# Altium schematic symbol library Sch_Milandr.SchLib: 3 symbols
Pins are listed as number, name and electrical type; pins without a type are passive.

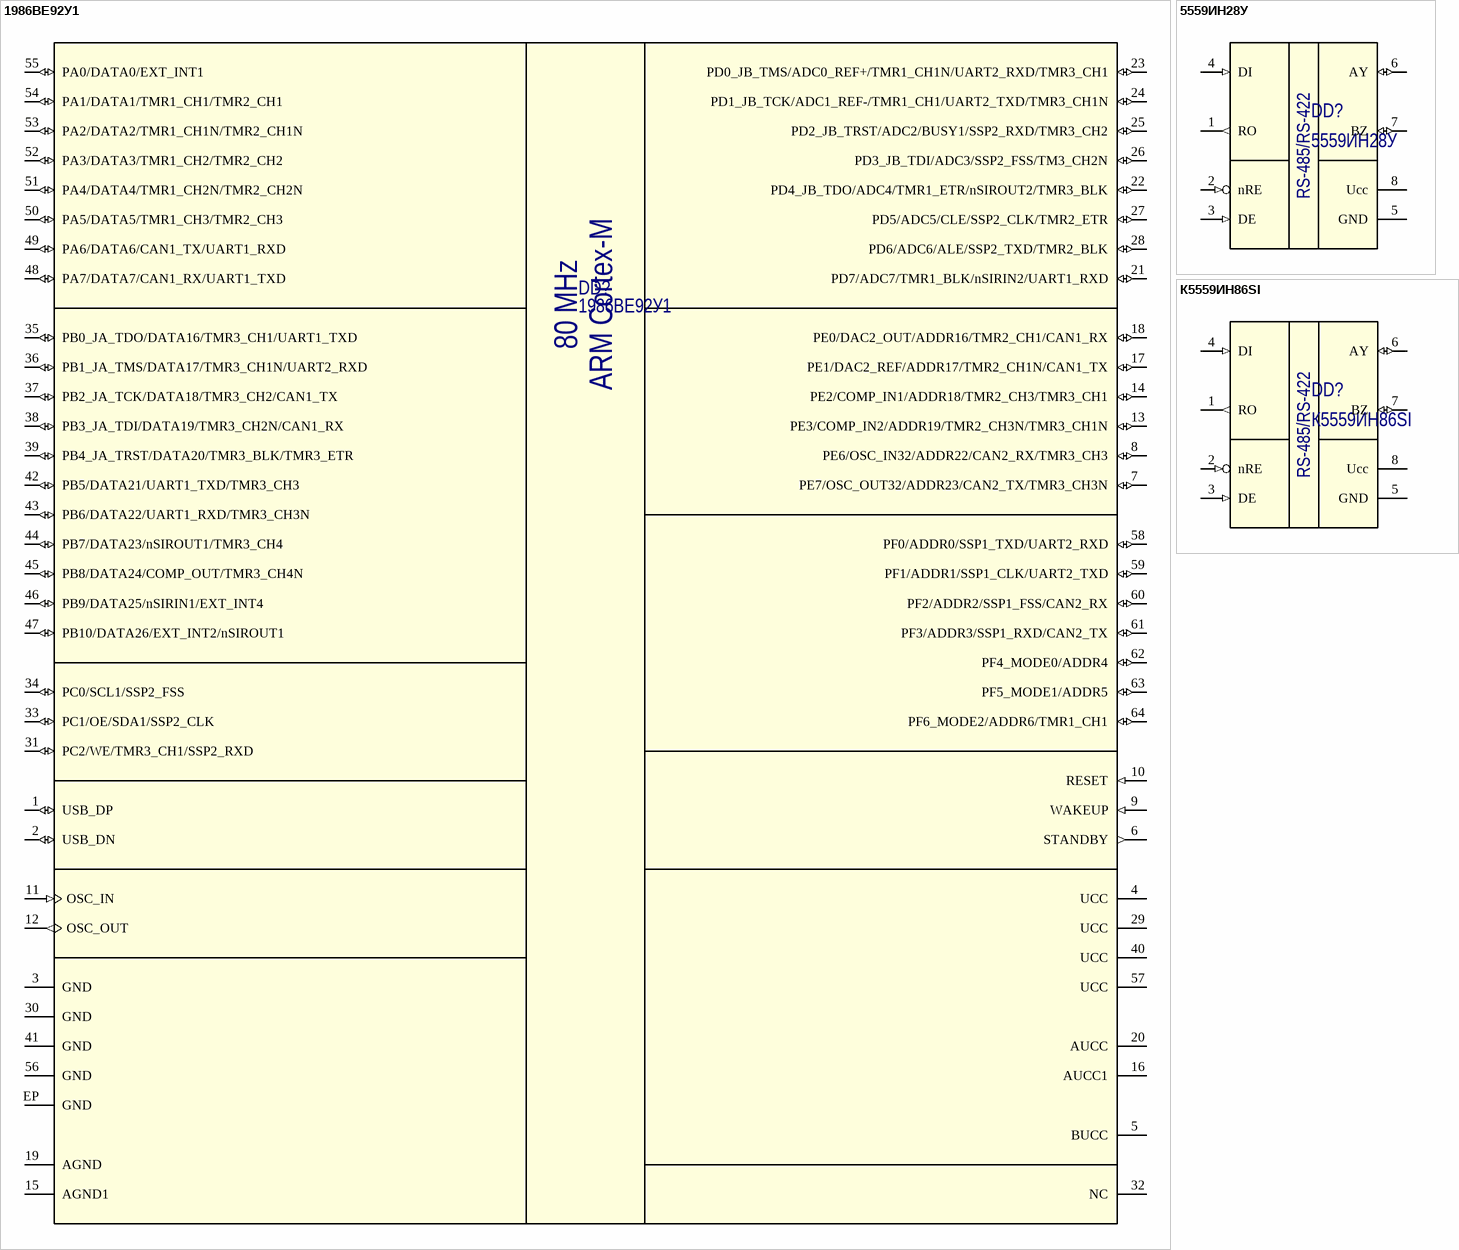
[diagram p0: symbols 1986ВЕ92У1 to К5559ИН86SI]

## 1986ВЕ92У1
designator DD?
ARM Cortex-M3 MCU 80 MHz with 128 KB flash; Manufacturer: АО "ПКК Миландр"; ТУ: АЕЯР.431290.711ТУ; Part Number: 1986ВЕ92У1
footprint MK 5153.64-2
pins: 1 USB_DP (io), 2 USB_DN (io), 3 GND (power), 4 UCC (power), 5 BUCC (power), 6 STANDBY (out), 7 PE7/OSC_OUT32/ADDR23/CAN2_TX/TMR3_CH3N (io), 8 PE6/OSC_IN32/ADDR22/CAN2_RX/TMR3_CH3 (io), 9 WAKEUP (in), 10 RESET (in), 11 OSC_IN (in), 12 OSC_OUT (out), 13 PE3/COMP_IN2/ADDR19/TMR2_CH3N/TMR3_CH1N (io), 14 PE2/COMP_IN1/ADDR18/TMR2_CH3/TMR3_CH1 (io), 15 AGND1 (power), 16 AUCC1 (power), 17 PE1/DAC2_REF/ADDR17/TMR2_CH1N/CAN1_TX (io), 18 PE0/DAC2_OUT/ADDR16/TMR2_CH1/CAN1_RX (io), 19 AGND (power), 20 AUCC (power), 21 PD7/ADC7/TMR1_BLK/nSIRIN2/UART1_RXD (io), 22 PD4_JB_TDO/ADC4/TMR1_ETR/nSIROUT2/TMR3_BLK (io), 23 PD0_JB_TMS/ADC0_REF+/TMR1_CH1N/UART2_RXD/TMR3_CH1 (io), 24 PD1_JB_TCK/ADC1_REF-/TMR1_CH1/UART2_TXD/TMR3_CH1N (io), 25 PD2_JB_TRST/ADC2/BUSY1/SSP2_RXD/TMR3_CH2 (io), 26 PD3_JB_TDI/ADC3/SSP2_FSS/TM3_CH2N (io), 27 PD5/ADC5/CLE/SSP2_CLK/TMR2_ETR (io), 28 PD6/ADC6/ALE/SSP2_TXD/TMR2_BLK (io), 29 UCC (power), 30 GND (power), 31 PC2/WE/TMR3_CH1/SSP2_RXD (io), 32 NC, 33 PC1/OE/SDA1/SSP2_CLK (io), 34 PC0/SCL1/SSP2_FSS (io), 35 PB0_JA_TDO/DATA16/TMR3_CH1/UART1_TXD (io), 36 PB1_JA_TMS/DATA17/TMR3_CH1N/UART2_RXD (io), 37 PB2_JA_TCK/DATA18/TMR3_CH2/CAN1_TX (io), 38 PB3_JA_TDI/DATA19/TMR3_CH2N/CAN1_RX (io), 39 PB4_JA_TRST/DATA20/TMR3_BLK/TMR3_ETR (io), 40 UCC (power), 41 GND (power), 42 PB5/DATA21/UART1_TXD/TMR3_CH3 (io), 43 PB6/DATA22/UART1_RXD/TMR3_CH3N (io), 44 PB7/DATA23/nSIROUT1/TMR3_CH4 (io), 45 PB8/DATA24/COMP_OUT/TMR3_CH4N (io), 46 PB9/DATA25/nSIRIN1/EXT_INT4 (io), 47 PB10/DATA26/EXT_INT2/nSIROUT1 (io), 48 PA7/DATA7/CAN1_RX/UART1_TXD (io), 49 PA6/DATA6/CAN1_TX/UART1_RXD (io), 50 PA5/DATA5/TMR1_CH3/TMR2_CH3 (io), 51 PA4/DATA4/TMR1_CH2N/TMR2_CH2N (io), 52 PA3/DATA3/TMR1_CH2/TMR2_CH2 (io), 53 PA2/DATA2/TMR1_CH1N/TMR2_CH1N (io), 54 PA1/DATA1/TMR1_CH1/TMR2_CH1 (io), 55 PA0/DATA0/EXT_INT1 (io), 56 GND (power), 57 UCC (power), 58 PF0/ADDR0/SSP1_TXD/UART2_RXD (io), 59 PF1/ADDR1/SSP1_CLK/UART2_TXD (io), 60 PF2/ADDR2/SSP1_FSS/CAN2_RX (io), 61 PF3/ADDR3/SSP1_RXD/CAN2_TX (io), 62 PF4_MODE0/ADDR4 (io), 63 PF5_MODE1/ADDR5 (io), 64 PF6_MODE2/ADDR6/TMR1_CH1 (io), EP GND
text: 80 MHz; ARM Cortex-M

## 5559ИН28У
designator DD?
RS-485 / RS-422 Transmitter / VCC: 3.0 - 5.5 V / Speed: 30 Mbit/sec; Manufacturer: АО "ПКК Миландр"; ТУ: АЕЯР.431230.882ТУ; Part Number: 5559ИН28У
footprint H02.8-1B
footprint H02.8-1B(with SO-8)
pins: 1 RO (out), 2 nRE (in), 3 DE (in), 4 DI (in), 5 GND (power), 6 AY (io), 7 BZ (io), 8 Ucc (power)
text: RS-485/RS-422

## К5559ИН86SI
designator DD?
RS-485 / RS-422 Transmitter / VCC: 3.0 - 5.5 V / Speed: 30 Mbit/sec; Manufacturer: АО "ПКК Миландр"; Part Number: К5559ИН86SI
footprint SOIC-8 (SOIC-8 package)
pins: 1 RO (out), 2 nRE (in), 3 DE (in), 4 DI (in), 5 GND (power), 6 AY (io), 7 BZ (io), 8 Ucc (power)
text: RS-485/RS-422